# Altium footprint library 电源开关.PcbLib: 18 footprints (part 2 of 2)
Each footprint in its own frame and in the unit in brackets; x right, y up, seen from the top. Pads: shape width x height; smd on the part's side, far side on the other; paste and mask are expansions set on the pad; w line width, h text height; cw(c..) or ccw(c..) is an arc to the next point about the centre after c.
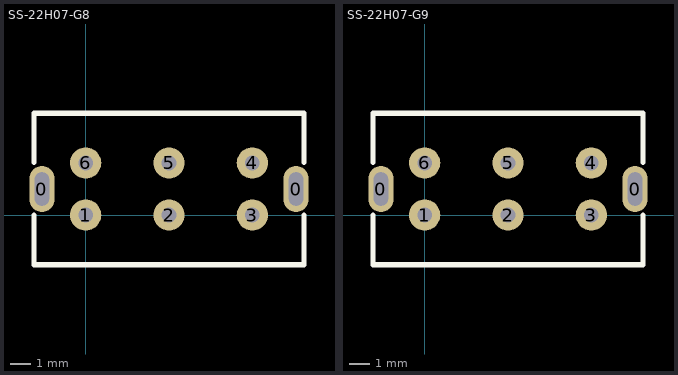
[diagram p1: the footprints below, top view; thin cyan lines are the x and y axes]

## SS-22H07-G8 [mm]
pads (8):
  oval 1.2x2.2 hole 0.7 slot 1.6 at 90 deg: 0(-2.1,1.25) 0(10.1,1.25)
  round 1.5 hole 0.7: 1(0,0) 2(4,0) 3(8,0) 4(8,2.5) 5(4,2.5) 6(0,2.5)
Top Overlay:
  lines w0.25: -2.477,0 -2.477,-2.382 10.477,-2.382 10.477,0 ; -2.477,2.52 -2.477,4.882 10.477,4.882 10.477,2.52
3D body "SS-22H07-G8.STEP": height 12.7, standoff -3.3, extent -2.286,-2.231 10.416,4.771

## SS-22H07-G9 [mm]
pads (8):
  oval 1.2x2.2 hole 0.7 slot 1.6 at 90 deg: 0(-2.1,1.25) 0(10.1,1.25)
  round 1.5 hole 0.7: 1(0,0) 2(4,0) 3(8,0) 4(8,2.5) 5(4,2.5) 6(0,2.5)
Top Overlay:
  lines w0.25: -2.477,0 -2.477,-2.382 10.477,-2.382 10.477,0 ; -2.477,2.52 -2.477,4.882 10.477,4.882 10.477,2.52
3D body "SS-22H07-G9.STEP": height 13.7, standoff -3.3, extent -2.414,-2.231 10.288,4.771